# Altium schematic symbol library boost.SchLib: 9 symbols
Pins are listed as number, name and electrical type; pins without a type are passive.

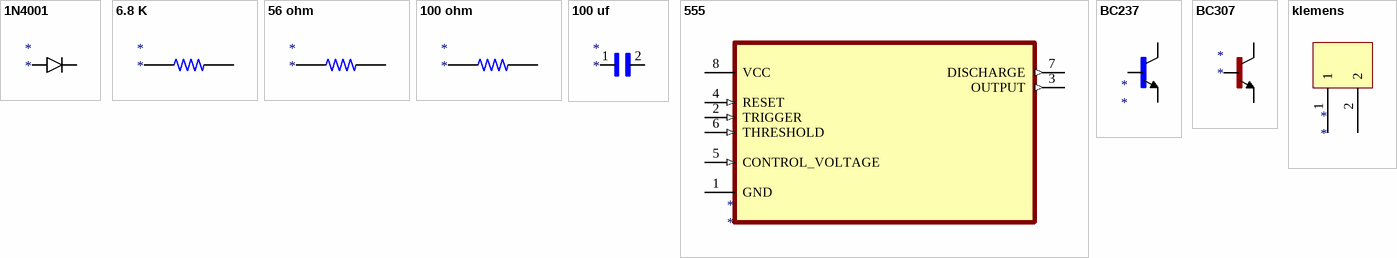
[diagram p0: symbols 1N4001 to klemens]

## 1N4001
designator *
footprint 1N4001
pins: A ANODE, C CATHODE

## 6.8 K
designator *
footprint 6.8 k
pins: 1, 2

## 56 ohm
designator *
footprint 56 ohm
pins: 1, 2

## 100 ohm
designator *
footprint 100 ohm
pins: 1, 2

## 100 uf
designator *
footprint 100 uf
pins: 1, 2

## 555
designator *
footprint 555
pins: 1 GND, 2 TRIGGER (in), 3 OUTPUT (out), 4 RESET (in), 5 CONTROL_VOLTAGE (in), 6 THRESHOLD (in), 7 DISCHARGE (out), 8 VCC (power)

## BC237
designator *
footprint BC237
pins: 1 E, 2 B, 3 C

## BC307
designator *
footprint BC307
pins: 1 E, 2 B, 3 C

## klemens
designator *
footprint klemens
pins: 1, 2